# Altium schematic symbol library 1622820-1.SchLib: 1 symbol
Pins are listed as number, name and electrical type; pins without a type are passive.

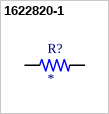
[diagram p0: symbol 1622820-1]

## 1622820-1
designator R?
3520 100K 5%; MP: 1622820-1; MF: {'manufacturer': u'TE Connectivity'}; Package: None; Value: *; Availability: Unavailable; Price: None
footprint RESC6331X70N
pins: 1, 2